# EAGLE library part TSL25911FN (library lpatiny)
The TSL2591 is a very-high sensitivity light-to-digital converter that transforms light intensity into a digital signal output capable of direct I 2 C interface.
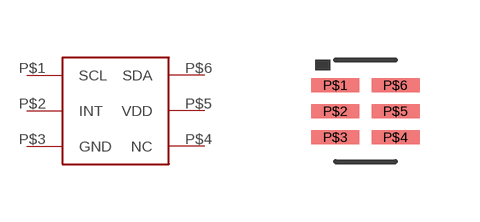
[diagram p26: symbol with the pads of ODFN6; footprint ODFN6]

Designator prefix -

## TSL25911FN  [ODFN6]
P$1  SCL
P$2  INT
P$3  GND
P$4  NC
P$5  VDD
P$6  SDA

## Footprint ODFN6 (pad centres in mm)
smd 1.199 x 0.351: P$1 0,0; P$2 0,-0.65; P$3 0,-1.3; P$4 1.501,-1.3; P$5 1.501,-0.65; P$6 1.501,0